# EAGLE library part TPS61252 (library m_vreg)
TPS61252 Tiny 1.5-A Boost Converter With Adjustable Input Current Limit Description The TPS61252 device provides a power supply solution for products powered by either a three-cell alkaline, NiCd or NiMH battery, or an one-cell Li-Ion or Li-polymer battery. The wide input voltage range is ideal to power portable applications like mobile phones or computer peripherals. The device has a resistor programmable (RILIM) input current limit and is suitable for a wide variety of applications. During light loads, the device automatically enters skip mode (PFM), which allows the converter to maintain the required output voltage, while only drawing 30 μA quiescent current from the battery. This allows maximum efficiency at lowest quiescent currents. TPS61252 allows the use of small inductors and capacitors to achieve a small solution size. The possibility to reduce the current limit by a external resistor offers the potential use of physically even smaller inductors with lower rated currents to further reduce total solution sizes of the power supply. During shutdown, the load is completely disconnected from the battery. The TPS61252 is available in a 8- pin WSON package measuring 2 mm × 2 mm (DSG). Features Resistor Programmable Input Current Limit ±20% Current Accuracy at 500 mA over Full Temperature Range Programmable from 100 mA up to 1500 mA Up to 92% Efficiency VIN Range from 2.3 V to 6.0 V Power Good Indicates Appropriate Output Voltage Level Adjustable Output Voltage up to 6.5 V 100% Duty-Cycle Mode When VIN > VOUT Load Disconnect and Reverse Current Protection Short Circuit Protection Typical Operating Frequency 3.25 MHz Available in a 2-mm × 2-mm WSON-8 Package Octopart Search <https://octopart.com/search?q=TPS61252DSG%3F> Based on data from TI TPS61252 datasheet SLVSAG3A – SEPTEMBER 2010 – REVISED DECEMBER 2014
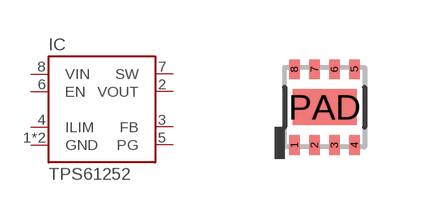
[diagram p17: symbol with the pads of S-PWSON-N8; footprint S-PWSON-N8]

Designator prefix IC

## TPS61252 (MANUF: TI; PARTNUM: TPS61252DSG?; VALUE: TPS61252)  [S-PWSON-N8]
1  GND  pas
2  VOUT  pas
3  FB  pas
4  ILIM  pas
5  PG  pas
6  EN  pas
7  SW  pas
8  VIN  pas
PAD  GND  pas

## Footprint S-PWSON-N8 (pad centres in mm)
8 Pin PWSON Package (DSG) 2.0mm x 2.0mm x 0.8mm Plastic Small Outline No-Lead, based on TI drawings 4208210/B 10/10, 4208347/I 06/15, 4208774/H 06/15. Note: TI recommends 0.07mm solder mask clearance for this footprint. 2x 0.3mm diameter thermal vias recommended in thermal pad. Added 2017-03-30
smd 0.28 x 0.5: 1 -0.75,-0.95; 2 -0.25,-0.95; 3 0.25,-0.95; 4 0.75,-0.95; 5 0.75,0.95; 6 0.25,0.95; 7 -0.25,0.95; 8 -0.75,0.95
smd 1.6 x 0.9: PAD 0,0